# EAGLE library part UAF42 (library uaf42)
TI - Universal Active Filter; Flexible Filter: LOW-PASS, HIGH-PASS, BAND-PASS, BAND-REJECT. CMRR 96dB, Impedance Common-mode 10^(13) Ohm / 6pF; Differential 10^(13)/ 2pF
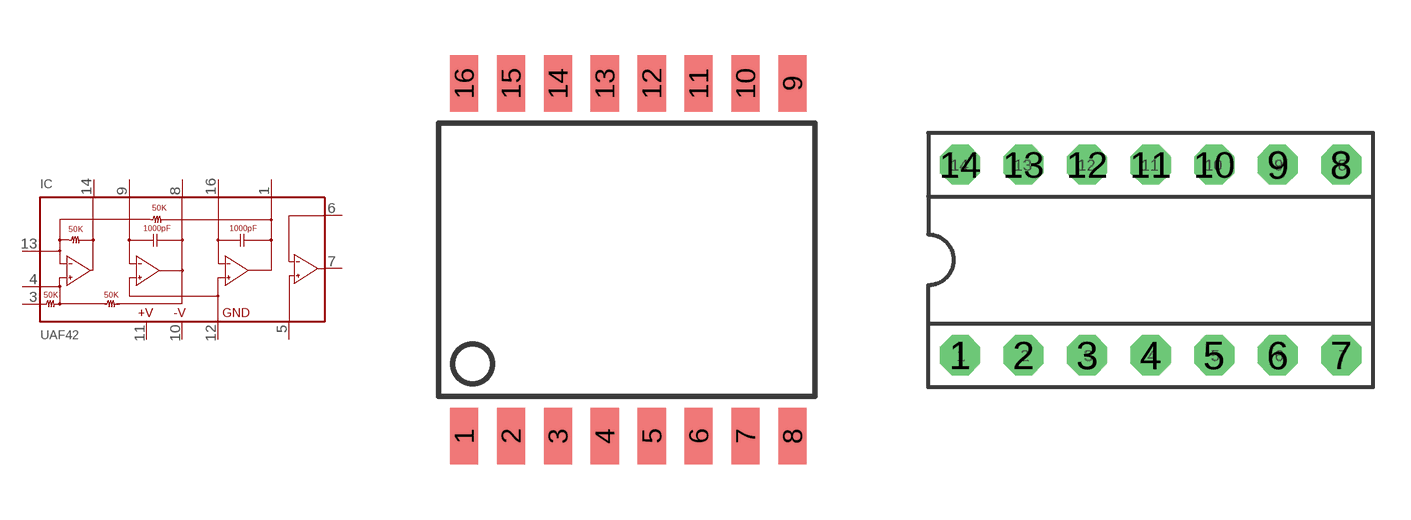
[diagram p0: symbol with the pads of SO16-1; footprints SO16-1, DIL14]

Designator prefix IC

## UAF42AU  [SO16-1]
1  LP_OUT  out
3  IN3
4  IN2  in
5  AUX_+IN  in
6  AUX_-IN  in
7  AUX_OUT  out
8  BP_OUT  out
9  ADJ_1
10  -V  pwr
11  +V  pwr
12  GND  sup
13  IN1  in
14  HP_OUT  out
16  ADJ_2

## UAF42AP  [DIL14]
1  LP_OUT  out
2  IN3
3  IN2  in
4  AUX_+IN  in
5  AUX_-IN  in
6  AUX_OUT  out
7  BP_OUT  out
8  ADJ_1
9  -V  pwr
10  +V  pwr
11  GND  sup
12  IN1  in
13  HP_OUT  out
14  ADJ_2

## Footprint SO16-1 (pad centres in mm)
Small Outline Package
smd 0.762 x 1.524: 1 -4.445,-4.775; 2 -3.175,-4.775; 3 -1.905,-4.775; 4 -0.635,-4.775; 5 0.635,-4.775; 6 1.905,-4.775; 7 3.175,-4.775; 8 4.445,-4.775; 9 4.445,4.775; 10 3.175,4.775; 11 1.905,4.775; 12 0.635,4.775; 13 -0.635,4.775; 14 -1.905,4.775; 15 -3.175,4.775; 16 -4.445,4.775

## Footprint DIL14 (pad centres in mm)
Dual In Line
drill 0.813 pad 1.6 octagon: 1 -7.62,-3.81; 2 -5.08,-3.81; 3 -2.54,-3.81; 4 0,-3.81; 5 2.54,-3.81; 6 5.08,-3.81; 7 7.62,-3.81; 8 7.62,3.81; 9 5.08,3.81; 10 2.54,3.81; 11 0,3.81; 12 -2.54,3.81; 13 -5.08,3.81; 14 -7.62,3.81